# EAGLE library part NMJ6HCD2 (library con-neutrik_ag)
1/4" Stereo Phone Connector M-Series (ReAn)
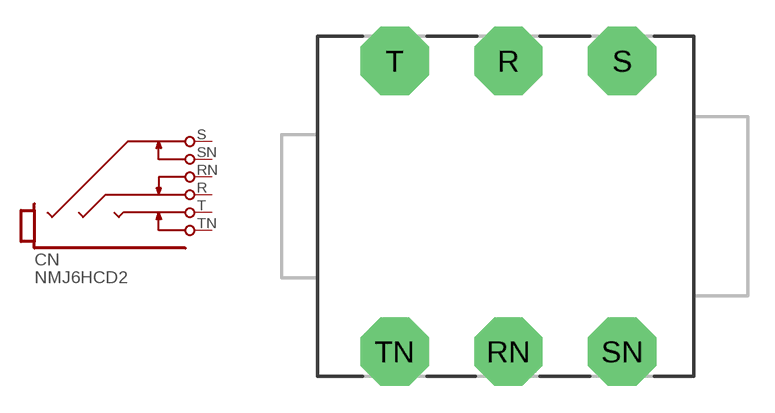
[diagram p3: symbol with the pads of NMJ6HCD2; footprint NMJ6HCD2]

Designator prefix CN

## NMJ6HCD2  [NMJ6HCD2]
R  R  pas
RN  RM  pas
S  S  pas
SN  SN  pas
T  T  pas
TN  TN  pas

## Footprint NMJ6HCD2 (pad centres in mm)
NMJ6H M-Series
drill 1.778 pad 3.81 octagon: R -10.35,8.115; RN -10.35,-8.115; S -4,8.115; SN -4,-8.115; T -16.7,8.115; TN -16.7,-8.115